# Altium footprint library DIODE_ESDALC6V1-1U2.PcbLib: 1 footprints
Each footprint in its own frame and in the unit in brackets; x right, y up, seen from the top. Pads: shape width x height; smd on the part's side, far side on the other; paste and mask are expansions set on the pad; w line width, h text height; cw(c..) or ccw(c..) is an arc to the next point about the centre after c.
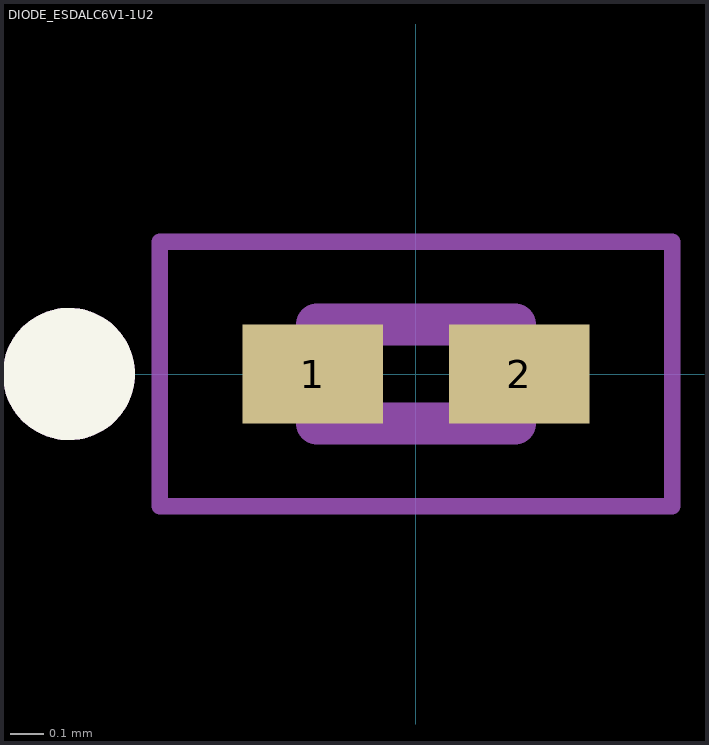
[diagram p0: the footprint, top view; thin cyan lines are the x and y axes]

## DIODE_ESDALC6V1-1U2 [mm]
height 0.33
pads (2):
  rect 0.425x0.3 smd paste-1 mask+0.05: 1(-0.312,0) 2(0.312,0)
Top Overlay:
  circle w0.2: c-1.05,0 r0.1
Top Paste:
  region: -0.165,-0.112 -0.485,-0.112 -0.485,0.112 -0.165,0.112
  region: 0.485,-0.112 0.165,-0.112 0.165,0.112 0.485,0.112
Mechanical 13:
  circle w0.2: c-1.05,0 r0.1
  lines w0.127: -0.3,-0.15 0.3,-0.15 0.3,0.15 -0.3,0.15 -0.3,-0.15
Mechanical 15:
  lines w0.05: -0.775,-0.4 -0.775,0.4 0.775,0.4 0.775,-0.4 -0.775,-0.4
3D body "step_temp.STEP": height 0.33, standoff 0, extent -0.3,-0.15 0.3,0.15